# Altium schematic symbol library LDL212DR.Schlib: 1 symbol
Pins are listed as number, name and electrical type; pins without a type are passive.

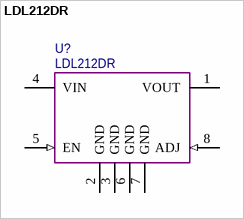
[diagram p0: symbol LDL212DR]

## LDL212DR
designator U?
Low-Dropout Positive Voltage Regulator
pins: 1 VOUT (power), 2 GND (power), 3 GND (power), 4 VIN (power), 5 EN (in), 6 GND (power), 7 GND (power), 8 ADJ (in)